# Altium schematic symbol library ESP 32 S Project Schlib1.SchLib: 3 symbols
Pins are listed as number, name and electrical type; pins without a type are passive.

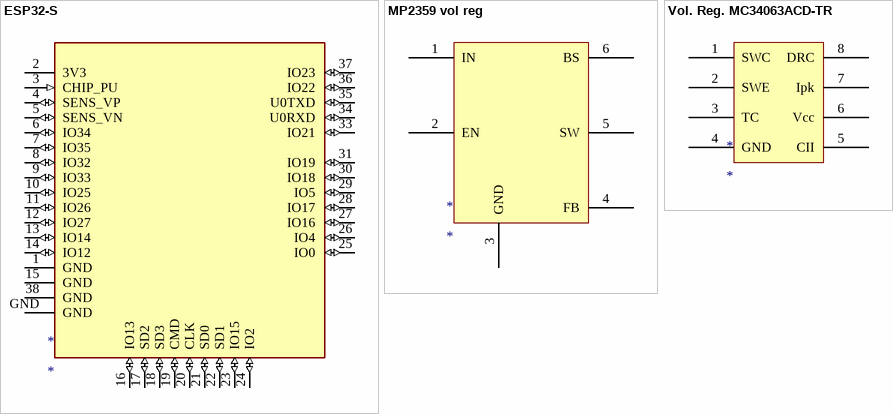
[diagram p0: symbols ESP32-S to Vol. Reg. MC34063ACD-TR]

## ESP32-S
designator *
pins: 1 GND (power), 2 3V3 (power), 3 CHIP_PU (in), 4 SENS_VP (io), 5 SENS_VN (io), 6 IO34 (io), 7 IO35 (io), 8 IO32 (io), 9 IO33 (io), 10 IO25 (io), 11 IO26 (io), 12 IO27 (io), 13 IO14 (io), 14 IO12 (io), 15 GND (power), 16 IO13 (io), 17 SD2 (io), 18 SD3 (io), 19 CMD (io), 20 CLK (io), 21 SD0 (io), 22 SD1 (io), 23 IO15 (io), 24 IO2 (io), 25 IO0 (io), 26 IO4 (io), 27 IO16 (io), 28 IO17 (io), 29 IO5 (io), 30 IO18 (io), 31 IO19 (io), 33 IO21 (io), 34 U0RXD (io), 35 U0TXD (io), 36 IO22 (io), 37 IO23 (io), 38 GND (power), GND (power)

## MP2359 vol reg
designator *
footprint MP2359 vol reg TSOT23-6 (SOT23, 6-Leads, Body 2,90x2,80mm, Pitch 0,95mm, IPC Medium Density)
pins: 1 IN, 2 EN, 3 GND, 4 FB, 5 SW, 6 BS

## Vol. Reg. MC34063ACD-TR
designator *
footprint Vol. Reg. MC34063ACD-TR (IC-34063 DC-DC CONVERTER CONTRO3,9mm SMD SO8 TR ST)
pins: 1 SWC, 2 SWE, 3 TC, 4 GND, 5 CII, 6 Vcc, 7 Ipk, 8 DRC